# Altium schematic symbol library IXDD609D2TR.SchLib: 1 symbol
Pins are listed as number, name and electrical type; pins without a type are passive.

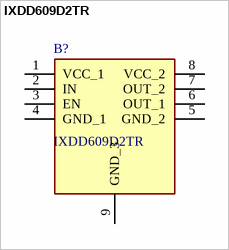
[diagram p0: symbol IXDD609D2TR]

## IXDD609D2TR
designator B?
Gate Drivers 9-Ampere Low-Side Ultrafast MOSFET; Manufacturer_Name: LITTELFUSE; Geometry.Height: 1mm; Manufacturer_Part_Number: IXDD609D2TR; Arrow Part Number: IXDD609D2TR; Arrow Price/Stock: https://www.arrow.com/en/products/ixdd609d2tr/ixys; Datasheet Link: http://www.ixysic.com/home/pdfs.nsf/www/IXD_609.pdf/$file/IXD_609.pdf
footprint SON95P500X400X100-9N
pins: 1 VCC_1, 2 IN, 3 EN, 4 GND_1, 5 GND_2, 6 OUT_1, 7 OUT_2, 8 VCC_2, 9 GND_3